# Altium schematic symbol library A2235-H.SchLib: 1 symbol
Pins are listed as number, name and electrical type; pins without a type are passive.

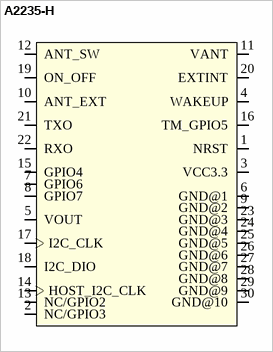
[diagram p0: symbol A2235-H]

## A2235-H
designator U?  (value not drawn)
Gps Module, Mini Outline w/ Ant; MF: Maestro Wireless; Availability: Good; Package: None; MP: A2235-H; Price: 16.06 USD; Value: *
footprint XCVR_A2235-H
pins: 1 NRST (in), 2 NC/GPIO3 (io), 3 VCC3.3 (power), 4 WAKEUP (out), 5 VOUT (out), 6 GND@1 (power), 7 GPIO6 (in), 8 GPIO7 (in), 9 GND@2 (power), 10 ANT_EXT (in), 11 VANT (power), 12 ANT_SW (in), 13 NC/GPIO2 (io), 14 HOST_I2C_CLK (io), 15 GPIO4 (in), 16 TM_GPIO5 (out), 17 I2C_CLK (io), 18 I2C_DIO (io), 19 ON_OFF (in), 20 EXTINT (in), 21 TXO (out), 22 RXO (in), 23 GND@3 (power), 24 GND@4 (power), 25 GND@5 (power), 26 GND@6 (power), 27 GND@7 (power), 28 GND@8 (power), 29 GND@9 (power), 30 GND@10 (power)